# Altium footprint library pcblib.PcbLib: 44 footprints (part 1 of 3)
Each footprint in its own frame and in the unit in brackets; x right, y up, seen from the top. Pads: shape width x height; smd on the part's side, far side on the other; paste and mask are expansions set on the pad; w line width, h text height; cw(c..) or ccw(c..) is an arc to the next point about the centre after c.
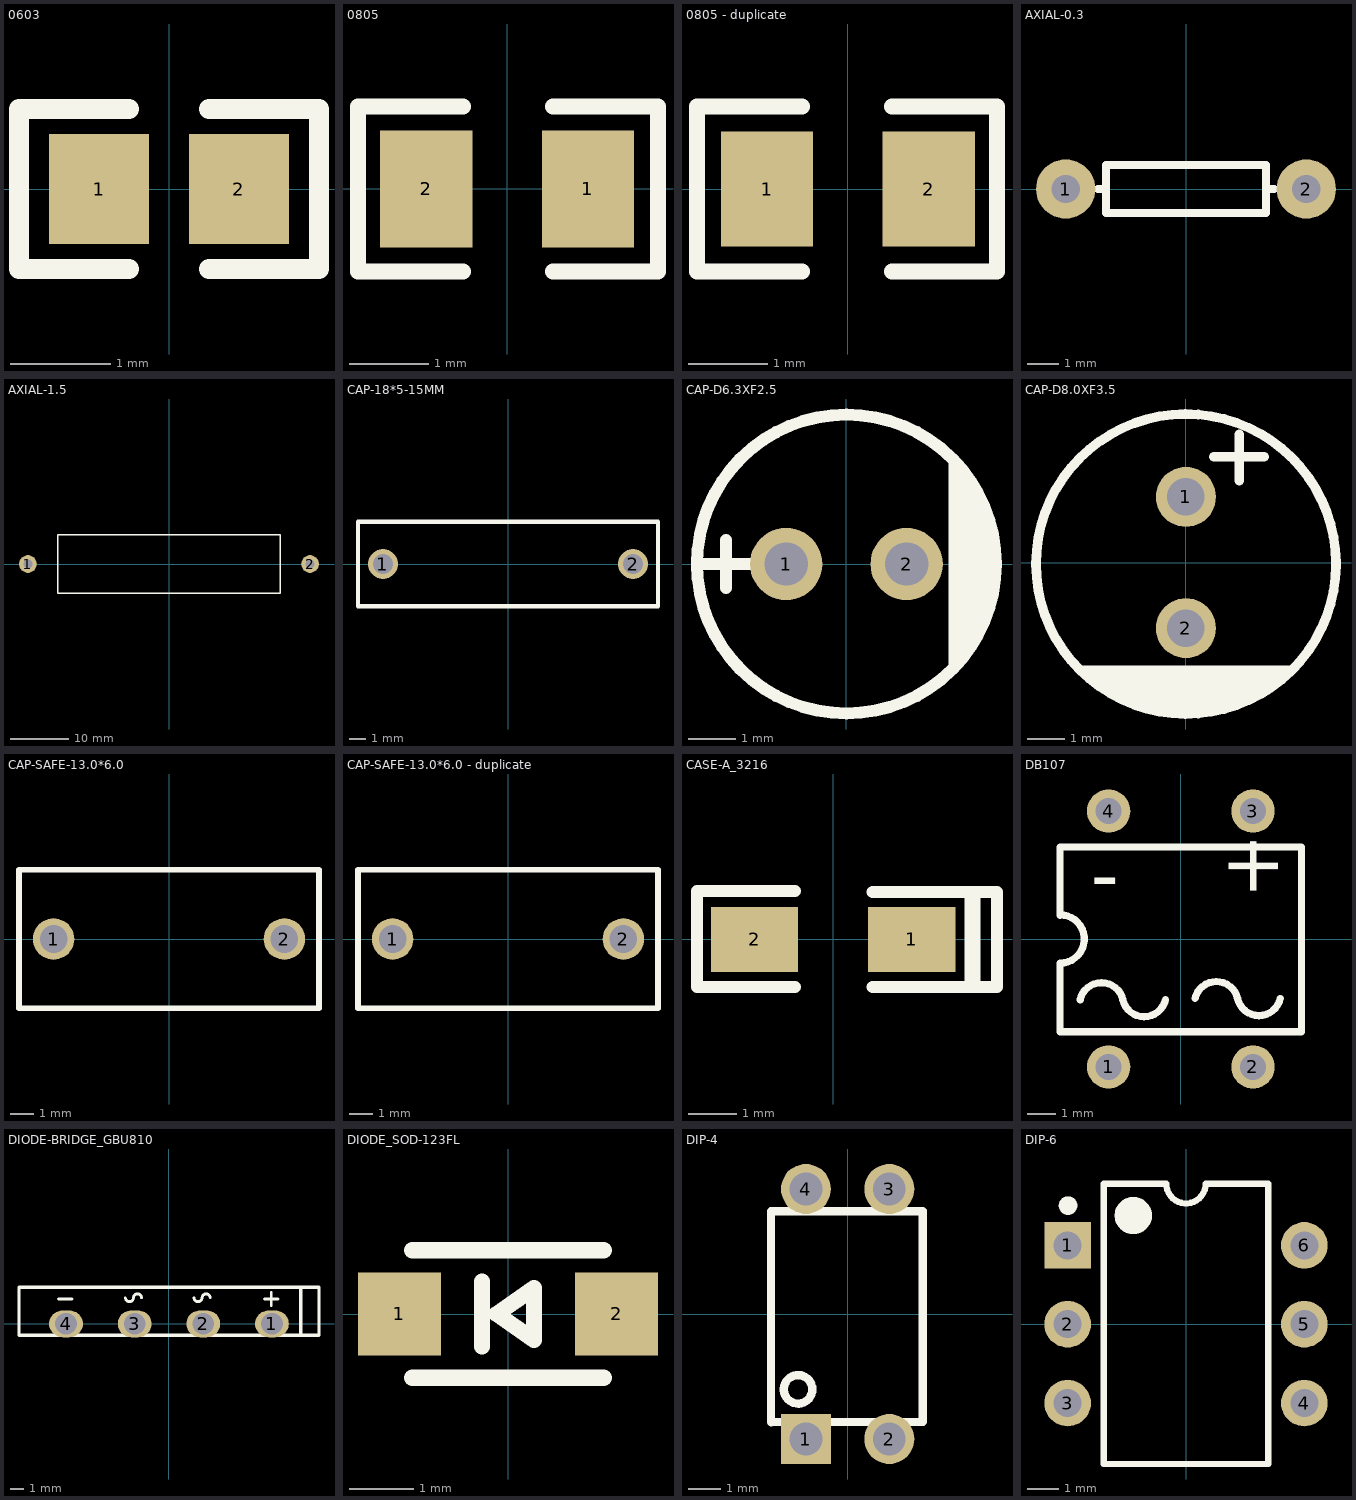
[diagram p0: the footprints below, top view; thin cyan lines are the x and y axes]

## 0603 [mm]
pads (2):
  rect 1x1.1 smd: 1(-0.7,0) 2(0.7,0)
Top Overlay:
  lines w0.2: -0.4,-0.8 -1.5,-0.8 -1.5,-0.2 -1.5,0.8 -0.4,0.8 ; 0.4,-0.8 1.5,-0.8 1.5,0.8 0.4,0.8

## 0805 [mm]
pads (2):
  rect 1.16x1.47 smd: 1(1.016,0) 2(-1.016,0)
Top Overlay:
  lines w0.2: -0.555,-1.035 -1.875,-1.035 -1.875,1.035 -0.555,1.035 ; 0.577,-1.035 1.897,-1.035 1.897,1.035 0.577,1.035

## 0805 - duplicate [mm]
pads (2):
  rect 1.16x1.45 smd: 1(-1.016,0) 2(1.016,0)
Top Overlay:
  lines w0.2: -0.577,-1.035 -1.897,-1.035 -1.897,1.035 -0.577,1.035 ; 0.555,-1.035 1.875,-1.035 1.875,1.035 0.555,1.035

## AXIAL-0.3 [mil]
pads (2):
  round 74 hole 35.4: 1(-150,0) 2(150,0)
Top Overlay:
  lines w10: -110,0 -100,0 ; 110,0 100,0 ; -100,0 -100,-30 100,-30 100,0 ; -100,0 -100,30 100,30 100,0

## AXIAL-1.5 [mil]
pads (2):
  round 120 hole 59.06: 1(-950.55,0) 2(950.55,0)
Top Overlay:
  lines w10: -748.03,-196.85 -748.03,196.85 748.03,196.85 748.03,-196.85 -748.03,-196.85

## CAP-18*5-15MM [mm]
pads (2):
  round 1.8 hole 1.2: 1(-7.501,0) 2(7.501,0)
Top Overlay:
  lines w0.254: -9,-2.54 -9,2.54 9,2.54 9,-2.54 -9,-2.54

## CAP-D6.3XF2.5 [mil]
pads (2):
  round 60 hole 36: 1(-50,0) 2(50,0)
Top Overlay:
  circle w10: c0,0 r124
  region: 85,90 91.28,84.33 102.15,71.35 111.11,56.98 117.99,41.51 122.65,25.23 125,8.47 125,-8.47 122.65,-25.23 117.99,-41.51 111.11,-56.98 102.15,-71.35 91.28,-84.33 85,-90
  lines w10: -120,0 -80,0 ; -100,-20 -100,20

## CAP-D8.0XF3.5 [mm]
pads (2):
  round 1.6 hole 1: 1(0,1.75) 2(0,-1.75)
Top Overlay:
  region: -3,-2.75 -2.8,-2.941 -2.355,-3.268 -1.872,-3.536 -1.359,-3.741 -0.824,-3.88 -0.276,-3.95 0.276,-3.95 0.824,-3.88 1.359,-3.741 1.872,-3.536 2.355,-3.268 2.8,-2.941 3,-2.75
  lines w0.254: 0.737,2.817 2.083,2.817 ; 1.422,2.182 1.422,3.426 ; 4,-0.074 cw(c0.001,-0.038) 4,-0.003

## CAP-SAFE-13.0*6.0 [mm]
pads (2):
  round 1.8 hole 1.2: 1(-5,0) 2(5,0)
Top Overlay:
  lines w0.254: -6.5,-3 6.5,-3 6.5,3 -6.5,3 -6.5,-3

## CAP-SAFE-13.0*6.0 - duplicate [mm]
pads (2):
  round 1.8 hole 1.2: 1(-5,0) 2(5,0)
Top Overlay:
  lines w0.254: -6.5,-3 6.5,-3 6.5,3 -6.5,3 -6.5,-3

## CASE-A_3216 [mil]
pads (2):
  rect 71.5x53.5 smd: 1(64.5,0) 2(-64.5,0)
Top Overlay:
  lines w10: -31.5,-39 -111.9,-39 -111.9,39.8 -31.5,39.8 ; 32.5,-39 134.5,-39 134.5,39 32.5,39
  lines w13: 114.5,-37 114.5,37

## DB107 [mil]
pads (4):
  round 60 hole 36: 1(-100,-177.2) 2(100,-177.2) 3(100,177.2) 4(-100,177.2)
Top Overlay:
  lines w10: -167.33,127.56 167.32,127.56 167.32,-128.35 ; -167.32,-33.46 -167.32,-128.34 167.33,-128.35 ; -167.32,32.68 -167.32,127.56 ; -167.32,33.46 cw(c-167.12,0) -166.93,-33.46 ; -139.4,-84.1 cw(c-109.85,-90.8) -80.3,-84.1 ; -80.4,-84.1 ccw(c-50.85,-77.4) -21.3,-84.1 ; 19.7,-82.6 cw(c49.25,-89.3) 78.8,-82.6 ; 78.7,-82.6 ccw(c108.25,-75.9) 137.8,-82.6
  text "-" at -125,50 h80
  text "+" at 135,55 h80

## DIODE-BRIDGE_GBU810 [mm]
pads (4):
  oval 2.5x2 hole 1.6: 1(7.62,0) 2(2.54,0) 3(-2.54,0) 4(-7.62,0)
Top Overlay:
  lines w0.203: -8.171,1.829 -7.171,1.829 ; -3.229,1.93 ccw(c-2.93,1.942) -2.63,1.93 cw(c-2.33,1.917) -2.031,1.93 ; 1.851,1.93 ccw(c2.15,1.942) 2.45,1.93 cw(c2.75,1.917) 3.049,1.93 ; 7.069,1.829 8.069,1.829 ; 7.569,1.329 7.569,2.329
  lines w0.254: -11.1,2.692 -11.1,-0.838 11.1,-0.838 ; -11.1,2.7 11.1,2.7 11.1,-0.83 ; 9.754,-0.825 9.754,2.705

## DIODE_SOD-123FL [mm]
pads (2):
  rect 1.3x1.3 smd: 1(-1.7,0) 2(1.7,0)
Top Overlay:
  lines w0.254: -1.5,-1 1.5,-1 ; -1.5,1 1.5,1 ; -0.406,-0.508 -0.406,0.508 ; -0.178,0 0.406,-0.406 0.406,0.406 -0.178,0

## DIP-4 [mil]
pads (4):
  rect 60x60 hole 39.37: 1(-50,-150)
  round 60 hole 39.37: 2(50,-150) 3(50,150) 4(-50,150)
Top Overlay:
  circle w10: c-59.44,-90.42 r17.11
  lines w10: -91.9,-129.6 -91.9,122.4 ; -91.9,123.2 89.2,123.2 ; -91.5,-129.9 90.4,-129.4 ; 90,-128.4 90,123.6

## DIP-6 [mm]
pads (6):
  rect 1.5x1.5 hole 0.9: 1(-3.81,2.54)
  round 1.5 hole 0.9: 2(-3.81,0) 3(-3.81,-2.54) 4(3.81,-2.54) 5(3.81,0) 6(3.81,2.54)
Top Overlay:
  lines w0.2: -2.649,-4.501 2.649,-4.501 2.649,4.524 0.635,4.524 cw(c0,4.524) -0.635,4.524 -2.649,4.524 -2.649,-4.501
  lines w0.3: -3.8,3.97 ccw(c-3.799,3.82) -3.797,3.97
  lines w0.6: -1.699,3.8 ccw(c-1.697,3.5) -1.694,3.8